# Altium footprint library PcbLib1.PcbLib: 3 footprints
Each footprint in its own frame and in the unit in brackets; x right, y up, seen from the top. Pads: shape width x height; smd on the part's side, far side on the other; paste and mask are expansions set on the pad; w line width, h text height; cw(c..) or ccw(c..) is an arc to the next point about the centre after c.
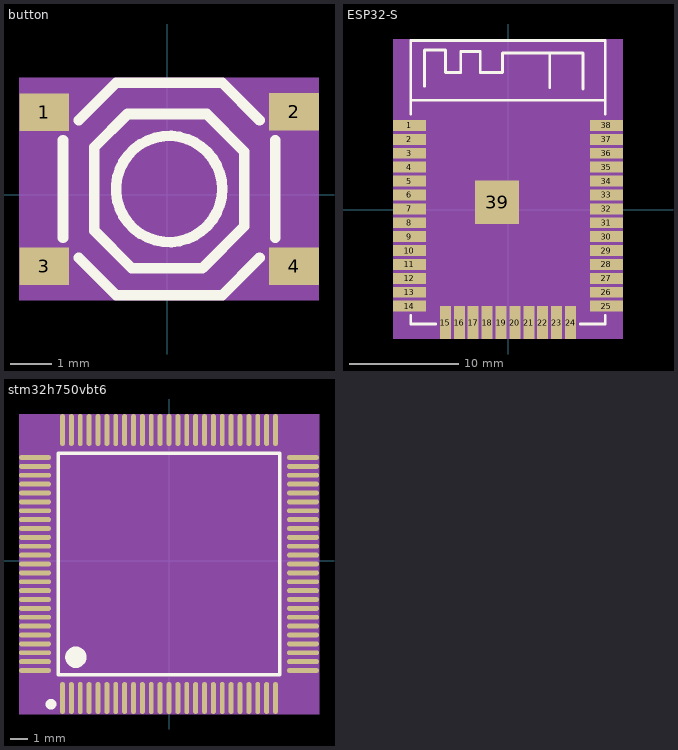
[diagram p0: the footprints below, top view; thin cyan lines are the x and y axes]

## button [mm]
pads (4):
  rect 1.2x0.9 smd: 1(-2.949,1.986) 2(3.051,1.988) 3(-2.949,-1.713) 4(3.051,-1.713)
Top Overlay:
  circle w0.254: c0.051,0.137 r1.275
  lines w0.254: -2.499,-1.031 -2.499,1.306 ; -2.119,-1.518 -1.224,-2.413 1.326,-2.413 2.221,-1.518 ; -2.119,1.792 -1.224,2.687 1.326,2.687 2.221,1.792 ; 2.601,-1.031 2.601,1.306 ; -1.75,-0.861 -1.75,1.138 -0.95,1.938 0.95,1.938 1.852,1.036 1.852,-0.762 0.851,-1.763 -0.848,-1.763 -1.75,-0.861
Mechanical 4:
  region: -3.556,2.814 3.65,2.814 3.65,-2.54 -3.556,-2.54
Mechanical 5:
  region: 2.451,-1.262 3.65,-1.262 3.65,-2.164 2.451,-2.164
  region: -3.549,-1.262 -2.35,-1.262 -2.35,-2.164 -3.549,-2.164
  region: 2.451,2.438 3.65,2.438 3.65,1.537 2.451,1.537
  region: -3.549,2.436 -2.35,2.436 -2.35,1.537 -3.549,1.537

## ESP32-S [mm]
pads (39):
  rect 3x1 smd: 1(-9.041,7.699) 2(-9.041,6.429) 3(-9.041,5.159) 4(-9.041,3.889) 5(-9.041,2.619) 6(-9.041,1.349) 7(-9.041,0.079) 8(-9.041,-1.191) 9(-9.041,-2.461) 10(-9.041,-3.731) 11(-9.041,-5.001) 12(-9.041,-6.271) 13(-9.041,-7.541) 14(-9.041,-8.811) 25(8.959,-8.811) 26(8.959,-7.541) 27(8.959,-6.271) 28(8.959,-5.001) 29(8.959,-3.731) 30(8.959,-2.461) 31(8.959,-1.191) 32(8.959,0.079) 33(8.959,1.349) 34(8.959,2.619) 35(8.959,3.889) 36(8.959,5.159) 37(8.959,6.429) 38(8.959,7.699)
  rect 1x3 smd: 15(-5.756,-10.311) 16(-4.486,-10.311) 17(-3.216,-10.311) 18(-1.946,-10.311) 19(-0.676,-10.311) 20(0.594,-10.311) 21(1.864,-10.311) 22(3.134,-10.311) 23(4.404,-10.311) 24(5.674,-10.311)
  rect 4x4 smd: 39(-1.041,0.689)
Top Overlay:
  lines w0.254: -8.931,-9.676 -8.931,-10.438 -6.645,-10.438 ; -8.931,8.739 -8.931,15.47 8.849,15.47 8.849,8.739 ; -8.931,10.009 8.849,10.009 ; -7.661,11.278 -7.661,14.58 -5.756,14.58 -5.756,12.548 -4.359,12.548 -4.359,14.453 -2.581,14.453 -2.581,12.548 -0.549,12.548 -0.549,14.326 6.817,14.326 6.817,11.024 ; 3.769,11.152 3.769,14.327 ; 6.563,-10.438 8.849,-10.438 8.849,-9.676
Mechanical 4:
  region: -10.541,15.597 10.465,15.597 10.465,-11.811 -10.541,-11.811
Mechanical 5:
  drawing of 39 lines, arcs and shapes, not listed

## stm32h750vbt6 [mm]
pads (100):
  oval 0.28x1.8 smd: 1(-6,-7.736) 2(-5.5,-7.736) 3(-5,-7.736) 4(-4.5,-7.736) 5(-4,-7.736) 6(-3.5,-7.736) 7(-3,-7.736) 8(-2.5,-7.736) 9(-2,-7.736) 10(-1.5,-7.736) 11(-1,-7.736) 12(-0.5,-7.736) 13(0,-7.736) 14(0.5,-7.736) 15(1,-7.736) 16(1.5,-7.736) 17(2,-7.736) 18(2.5,-7.736) 19(3,-7.736) 20(3.5,-7.736) 21(4,-7.736) 22(4.5,-7.736) 23(5,-7.736) 24(5.5,-7.736) 25(6,-7.736) 51(6,7.364) 52(5.5,7.364) 53(5,7.364) 54(4.5,7.364) 55(4,7.364) 56(3.5,7.364) 57(3,7.364) 58(2.5,7.364) 59(2,7.364) 60(1.5,7.364) 61(1,7.364) 62(0.5,7.364) 63(0,7.364) 64(-0.5,7.364) 65(-1,7.364) 66(-1.5,7.364) 67(-2,7.364) 68(-2.5,7.364) 69(-3,7.364) 70(-3.5,7.364) 71(-4,7.364) 72(-4.5,7.364) 73(-5,7.364) 74(-5.5,7.364) 75(-6,7.364)
  oval 1.8x0.28 smd: 26(7.55,-6.186) 27(7.55,-5.686) 28(7.55,-5.186) 29(7.55,-4.686) 30(7.55,-4.186) 31(7.55,-3.686) 32(7.55,-3.186) 33(7.55,-2.686) 34(7.55,-2.186) 35(7.55,-1.686) 36(7.55,-1.186) 37(7.55,-0.686) 38(7.55,-0.186) 39(7.55,0.314) 40(7.55,0.814) 41(7.55,1.314) 42(7.55,1.814) 43(7.55,2.314) 44(7.55,2.814) 45(7.55,3.314) 46(7.55,3.814) 47(7.55,4.314) 48(7.55,4.814) 49(7.55,5.314) 50(7.55,5.814) 76(-7.55,5.814) 77(-7.55,5.314) 78(-7.55,4.814) 79(-7.55,4.314) 80(-7.55,3.814) 81(-7.55,3.314) 82(-7.55,2.814) 83(-7.55,2.314) 84(-7.55,1.814) 85(-7.55,1.314) 86(-7.55,0.814) 87(-7.55,0.314) 88(-7.55,-0.186) 89(-7.55,-0.686) 90(-7.55,-1.186) 91(-7.55,-1.686) 92(-7.55,-2.186) 93(-7.55,-2.686) 94(-7.55,-3.186) 95(-7.55,-3.686) 96(-7.55,-4.186) 97(-7.55,-4.686) 98(-7.55,-5.186) 99(-7.55,-5.686) 100(-7.55,-6.186)
Top Overlay:
  lines w0.2: -6.25,-6.436 -6.25,6.064 6.25,6.064 6.25,-6.436 -6.25,-6.436
  lines w0.3: -6.65,-7.936 ccw(c-6.648,-8.086) -6.647,-7.936
  lines w0.6: -5.25,-5.137 ccw(c-5.248,-5.437) -5.245,-5.137
Mechanical 4:
  region: -8.45,8.264 8.45,8.264 8.45,-8.636 -8.45,-8.636
Mechanical 5:
  drawing of 100 lines, arcs and shapes, not listed